# Altium schematic symbol library PLL1705(6).SchLib: 1 symbol
Pins are listed as number, name and electrical type; pins without a type are passive.

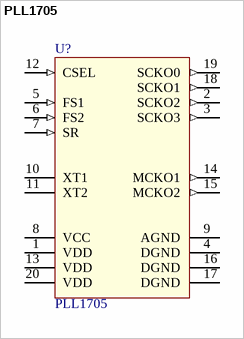
[diagram p0: symbol PLL1705]

## PLL1705
designator U?
3.3v dual PLL multiclock generator; value: PLL1705
pins: 1 VDD (power), 2 SCKO2 (out), 3 SCKO3 (out), 4 DGND (power), 5 FS1 (in), 6 FS2 (in), 7 SR (in), 8 VCC (power), 9 AGND (power), 10 XT1, 11 XT2, 12 CSEL (in), 13 VDD (power), 14 MCKO1 (out), 15 MCKO2 (out), 16 DGND (power), 17 DGND (power), 18 SCKO1 (out), 19 SCKO0 (out), 20 VDD (power)